# Altium footprint library XCVR_ANT-GNSSCP-TH18L1.PcbLib: 1 footprints
Each footprint in its own frame and in the unit in brackets; x right, y up, seen from the top. Pads: shape width x height; smd on the part's side, far side on the other; paste and mask are expansions set on the pad; w line width, h text height; cw(c..) or ccw(c..) is an arc to the next point about the centre after c.
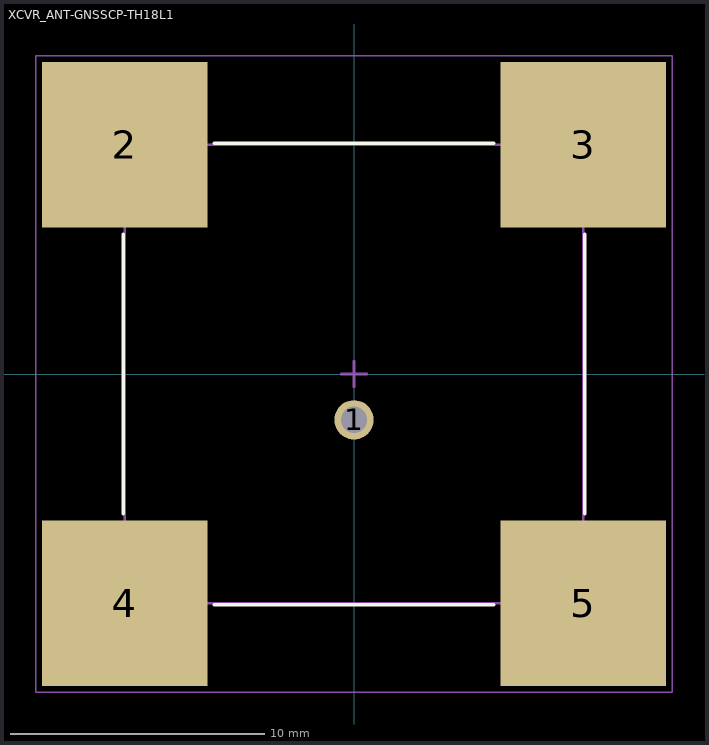
[diagram p0: the footprint, top view; thin cyan lines are the x and y axes]

## XCVR_ANT-GNSSCP-TH18L1 [mm]
height 4
pads (5):
  round 1.55 hole 1.03: 1(0,-1.8)
  rect 6.5x6.5 smd: 2(-9,9) 3(9,9) 4(-9,-9) 5(9,-9)
Top Overlay:
  lines w0.127: -9.063,-5.486 -9.063,5.486 ; -5.486,-9.063 5.486,-9.063 ; -5.486,9.063 5.486,9.063 ; 9.063,-5.486 9.063,5.486
Top Assembly:
  lines w0.1: -9,-9 9,-9 9,7 7,9 -9,9 -9,-9
Top Designator:
  text ".Designator" at -3.647,-0.357 h1
Top Courtyard:
  lines w0.05: -12.5,-12.5 -12.5,12.5 12.5,12.5 12.5,-12.5 -12.5,-12.5
Top Component Center (Mech17):
  lines w0.1: -0.5,0 0.5,0 ; 0,-0.5 0,0.5
3D body "step_temp.STEP": height 4.1, standoff -1.7, extent -9,-9 9,9